# EAGLE library part 8PINFFC (library Richard_Experimental)
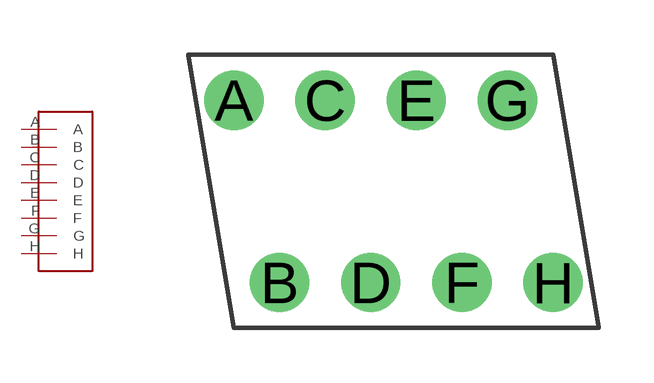
[diagram p4: symbol with the pads of 8PINFFC; footprint 8PINFFC]

Designator prefix -

## 8PINFFC  [8PINFFC]
A  A
B  B
C  C
D  D
E  E
F  F
G  G
H  H

## Footprint 8PINFFC (pad centres in mm)
drill 0.813 pad 1.626: A -2.5,0; B -1.25,-5; C 0,0; D 1.25,-5; E 2.5,0; F 3.75,-5; G 5,0; H 6.25,-5